# Altium schematic symbol library BLM18SG331TN1D.SchLib: 1 symbol
Pins are listed as number, name and electrical type; pins without a type are passive.

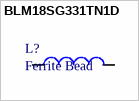
[diagram p0: symbol BLM18SG331TN1D]

## BLM18SG331TN1D
designator L?, comment Ferrite Bead
Ferrite Bead 0603; MPN: BLM18SG331TN1D; Farnell: 1515756RL; Digi-Key: 490-3997-1-ND
footprint 0603 (Chip Capacitor; Body 1.6 x 0.8 mm (LxW typ))
pins: 1, 2